# Altium schematic symbol library ST25RU3993_RF_MODULE.SCHLIB: 256 symbols (part 7 of 8)
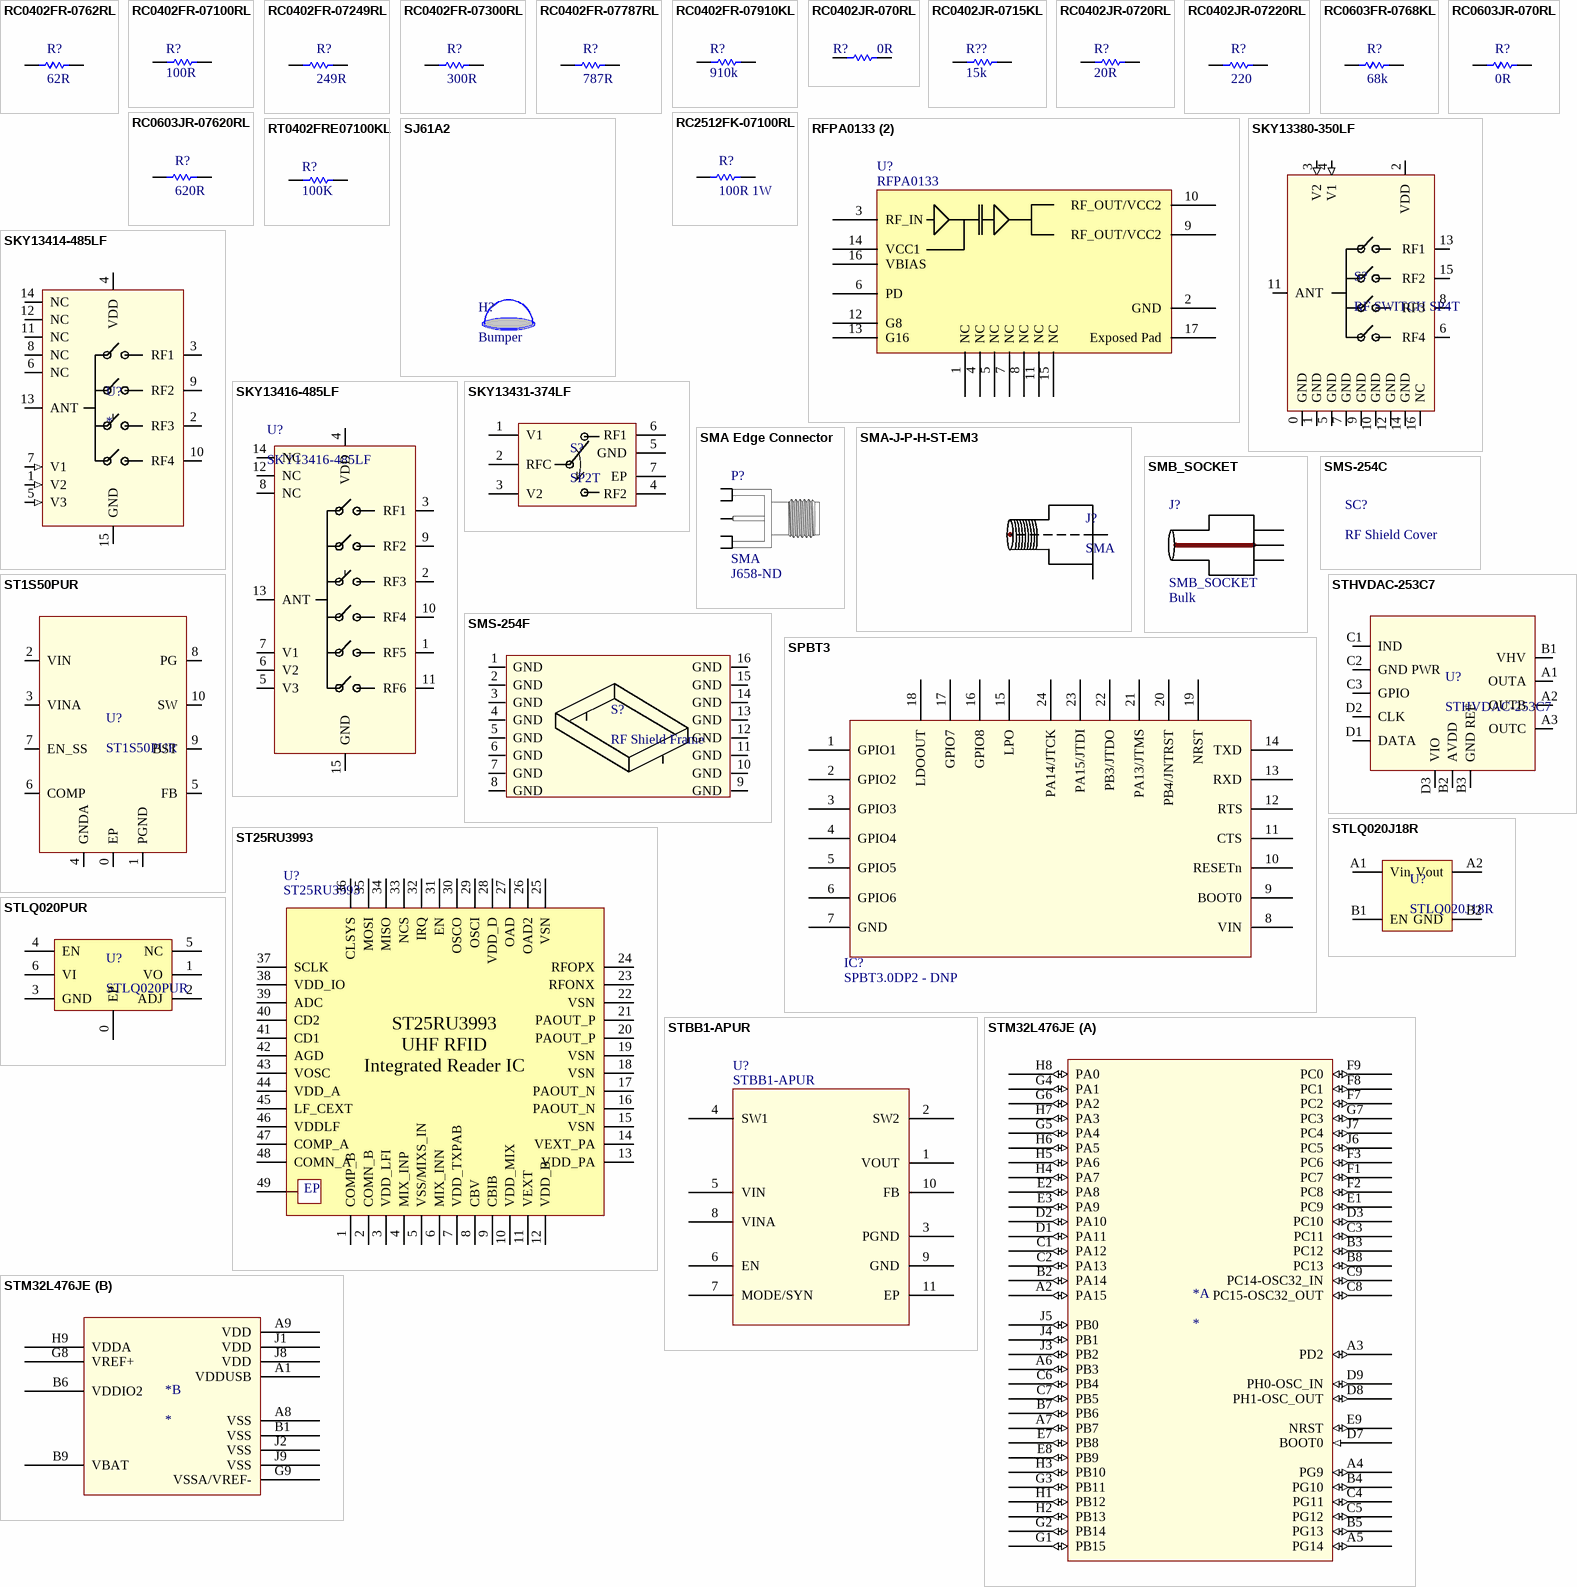
[diagram p12: symbols RC0402FR-0762RL to STM32L476JE]

## RC0402FR-07910KL
designator R?, comment 910k
RES SMD 910K OHM 1% 1/16W 0402; Manufacturer 1: Yageo; Manufacturer Part Number 1: RC0402FR-07910KL; Power (Watts): 0.063W, 1/16W; Temperature Coefficient: ±100ppm/°C; Exact Component Match: no; Driver Circuitry: Transducer, Externally Driven; Input Type: Zero-Peak Signal; Voltage - Rated: 1.5V; Voltage Range: 12.5V (Max); Frequency: 4kHz; Operating Mode: Single Tone; Sound Pressure Level (SPL): 65dB @ 1.5V, 10cm; Port Location: Side; Supplier 1: Digi-Key; Supplier Part Number 1: YAG3257DKR-ND; RoHS: RoHS Compliant; Category: Resistors; Stock 1: 154320; Pricing 1: 1=0.09, 10=0.011, 25=0.0076, 100=0.0043, 250=0.00332, 500=0.00264, 1000=0.00194, 2500=0.00168, 5000=0.00139 (EUR); Packaging: Digi-Reel®; Part Status: Active; Resistance (Ohms): 910k; Tolerance: ±1%; Composition: Thick Film; Features: Moisture Resistant; Operating Temperature: -55°C ~ 155°C; Package / Case: 0402 (1005 Metric); Supplier Device Package: 0402; Size / Dimension: 0.039" L x 0.020" W (1.00mm x 0.50mm); Height - Seated (Max): 0.016" (0.40mm); Number of Terminations: 2; Failure Rate: -; ComponentLink1URL: http://www.yageo.com/NewPortal/yageodocoutput?fileName=/pdf/R-Chip/PYu-RC_Group_51_RoHS_L_4.pdf; ComponentLink1Description: http://www.yageo.com/NewPortal/yageodocoutput?fileName=/pdf/R-Chip/PYu-RC_Group_51_RoHS_L_4.pdf; Manufacturer: Yageo; Manufacturer Part Number: RC0402FR-07910KL; Supplier 2: Digi-Key; Supplier Part Number 2: 490-9647-1-ND; Stock: 15302; Pricing: 1=1.66, 10=1.45, 25=1.1276, 50=1.02, 100=0.9127, 250=0.88584, 500=0.85898, 1000=0.77846 (EUR); Technology: Piezo; Duration: -; Current - Supply: -; Approvals: -; Ratings: -; Mounting Type: Surface Mount; Termination: Solder Pads; ComponentLink2URL: http://www.murata.com/~/media/webrenewal/products/sound/sounder/vppt-buzj083-d.ashx; ComponentLink2Description: http://www.murata.com/~/media/webrenewal/products/sound/sounder/vppt-buzj083-d.ashx
footprint R0402-ss
pins: 1, 2

## RC0402JR-070RL
designator R?, comment 0R
RES SMD 0.0OHM JUMPER 1/16W 0402; Manufacturer: Yageo; Manufacturer Part Number: RC0402JR-070RL; Resistance (Ohms): 0.0; Power (Watts): 0.063W, 1/16W; Exact Component Match: no; Supplier 1: Digi-Key; Supplier Part Number 1: 311-0.0JRDKR-ND; RoHS: RoHS Compliant; Category: Resistors; Stock 1: 13423202; Pricing 1: 1=0.09, 10=0.012, 25=0.0084, 100=0.0048, 250=0.0036, 500=0.00288, 1000=0.00212, 2500=0.00184, 5000=0.00152 (EUR); Packaging: Digi-Reel®; Part Status: Active; Tolerance: Jumper; Composition: Thick Film; Features: Moisture Resistant; Temperature Coefficient: -; Operating Temperature: -55°C ~ 155°C; Package / Case: 0402 (1005 Metric); Supplier Device Package: 0402; Size / Dimension: 0.039" L x 0.020" W (1.00mm x 0.50mm); Height - Seated (Max): 0.016" (0.40mm); Number of Terminations: 2; Failure Rate: -; ComponentLink1URL: http://www.yageo.com/NewPortal/yageodocoutput?fileName=/pdf/R-Chip/PYu-RC_Group_51_RoHS_L_4.pdf; ComponentLink1Description: http://www.yageo.com/NewPortal/yageodocoutput?fileName=/pdf/R-Chip/PYu-RC_Group_51_RoHS_L_4.pdf; Manufacturer 1: Yageo; Manufacturer Part Number 1: RC0402JR-070RL
footprint R0402-RF
pins: 1, 2

## RC0402JR-0715KL
designator R??, comment 15k
RES SMD 15K OHM 5% 1/16W 0402; Manufacturer: Yageo; Manufacturer Part Number: RC0402JR-0715KL; Power (Watts): 0.063W, 1/16W; Temperature Coefficient: ±100ppm/°C; Supplier 1: Digi-Key; Supplier Part Number 1: 311-15KJRCT-ND; RoHS: RoHS Compliant; Category: Resistors; Stock 1: 269346; Pricing 1: 1=0.1, 10=0.011, 25=0.0072, 50=0.0056, 100=0.0041, 250=0.00316, 500=0.00252, 1000=0.00185, 5000=0.00133 (EUR); Packaging: Cut Tape (CT); Part Status: Active; Resistance (Ohms): 15k; Tolerance: ±5%; Composition: Thick Film; Features: Moisture Resistant; Operating Temperature: -55°C ~ 155°C; Package / Case: 0402 (1005 Metric); Supplier Device Package: 0402; Size / Dimension: 0.039" L x 0.020" W (1.00mm x 0.50mm); Height - Seated (Max): 0.016" (0.40mm); Number of Terminations: 2; Failure Rate: -; ComponentLink1URL: http://www.yageo.com/NewPortal/yageodocoutput?fileName=/pdf/R-Chip/PYu-RC_Group_51_RoHS_L_4.pdf; ComponentLink1Description: http://www.yageo.com/NewPortal/yageodocoutput?fileName=/pdf/R-Chip/PYu-RC_Group_51_RoHS_L_4.pdf
footprint R0402-RF
pins: 1, 2

## RC0402JR-0720RL
designator R?, comment 20R
RES SMD 20 OHM 5% 1/16W 0402; Manufacturer 1: Yageo; Manufacturer Part Number 1: RC0402JR-0720RL; Resistance (Ohms): 20; Power (Watts): 0.063W, 1/16W; Temperature Coefficient: ±100ppm/°C; Frequency: 915MHz Center; Bandwidth: 26MHz; Filter Type: Low Pass; Insertion Loss: 0.5dB; Exact Component Match: no; Supplier 1: Digi-Key; Supplier Part Number 1: 311-20JRCT-ND; RoHS: RoHS Compliant; Category: Resistors; Stock 1: 271534; Pricing 1: 1=0.09, 10=0.011, 25=0.0076, 100=0.0042, 250=0.00324, 500=0.00262, 1000=0.00192, 2500=0.00166, 5000=0.00137 (EUR); Packaging: Cut Tape (CT); Part Status: Active; Tolerance: ±5%; Composition: Thick Film; Features: Moisture Resistant; Operating Temperature: -55°C ~ 155°C; Package / Case: 0402 (1005 Metric); Supplier Device Package: 0402; Size / Dimension: 0.039" L x 0.020" W (1.00mm x 0.50mm); Height - Seated (Max): 0.016" (0.40mm); Number of Terminations: 2; Failure Rate: -; ComponentLink1URL: http://www.yageo.com/NewPortal/yageodocoutput?fileName=/pdf/R-Chip/PYu-RC_Group_51_RoHS_L_4.pdf; ComponentLink1Description: http://www.yageo.com/NewPortal/yageodocoutput?fileName=/pdf/R-Chip/PYu-RC_Group_51_RoHS_L_4.pdf; Supplier 2: Digi-Key; Supplier Part Number 2: 712-1122-1-ND; Manufacturer 2: Johanson Technology Inc.; Manufacturer Part Number 2: 0915LP15B026E; Stock 2: 3000; Pricing 2: 1=0.42, 10=0.396, 25=0.3776, 50=0.3654, 100=0.3532, 250=0.33496, 500=0.28014, 1000=0.21741 (EUR); Ripple: -; Mounting Type: Surface Mount; Height (Max): 0.037" (0.95mm); ComponentLink2URL: http://www.johansontechnology.com/datasheets/low-pass-filters/0915LP15B026.pdf; ComponentLink2Description: http://www.johansontechnology.com/datasheets/low-pass-filters/0915LP15B026.pdf; Manufacturer: Yageo; Manufacturer Part Number: RC0402JR-0720RL
footprint R0402-RF
pins: 1, 2

## RC0402JR-07220RL
designator R?, comment 220
RES SMD 220 OHM 5% 1/16W 0402; Manufacturer: Yageo; Manufacturer Part Number: RC0402JR-07220RL; Power (Watts): 0.063W, 1/16W; Temperature Coefficient: ±100ppm/°C; Capacitance: 47pF; Voltage Rating: 25V; Dielectric: C0G; Supplier 1: Digi-Key; Supplier Part Number 1: 311-220JRCT-ND; RoHS: RoHS Compliant; Category: Resistors; Stock: 1308308; Pricing: 1=0.08, 10=0.01, 100=0.0042, 1000=0.00186, 2500=0.00162, 5000=0.00134 (EUR); Packaging: Cut Tape (CT); Part Status: Active; Tolerance: ±5%; Composition: Thick Film; Features: Moisture Resistant; Operating Temperature: -55°C ~ 155°C; Package / Case: 0402 (1005 Metric); Supplier Device Package: 0402; Size / Dimension: 0.039" L x 0.020" W (1.00mm x 0.50mm); Height - Seated (Max): 0.016" (0.40mm); Failure Rate: -; ComponentLink1URL: http://www.yageo.com/documents/recent/PYu-RC_Group_51_RoHS_L_8.pdf; ComponentLink1Description: http://www.yageo.com/documents/recent/PYu-RC_Group_51_RoHS_L_8.pdf; Supplier 2: Digi-Key; Supplier Part Number 2: 490-1256-6-ND; Mount: Surface Mount; Case/Package: 0201; Case Code (Metric): 0603; Case Code (Imperial): 0201; Min Operating Temperature: -55°C; Max Operating Temperature: 125°C; Package Quantity: 15000; Termination: SMD/SMT; Voltage Rating (DC): 25V; Length: 0.024inch; Width: 0.012inch; Thickness: 0.013inch; Depth: 0.3mm; REACH SVHC: No SVHC; Lead Free: Lead Free; ComponentLink2URL: https://datasheet.ciiva.com/5435/product-5435546.pdf; ComponentLink2Description: https://datasheet.ciiva.com/5435/product-5435546.pdf; ComponentLink3URL: https://datasheet.ciiva.com/18697/partnumbering-e-01-18697789.pdf; ComponentLink3Description: https://datasheet.ciiva.com/18697/partnumbering-e-01-18697789.pdf; ComponentLink4URL: https://datasheet.ciiva.com/18697/partnumbering-e-01-18697790.pdf; ComponentLink4Description: https://datasheet.ciiva.com/18697/partnumbering-e-01-18697790.pdf; ComponentLink5URL: https://datasheet.ciiva.com/18697/partnumbering-e-01-18697791.pdf; ComponentLink5Description: https://datasheet.ciiva.com/18697/partnumbering-e-01-18697791.pdf; Supplier 3: Digi-Key; Supplier Part Number 3: 311-20KNCT-ND; ComponentLink6URL: http://www.yageo.com/documents/recent/PYu-RC_Group_51_RoHS_L_10.pdf; ComponentLink6Description: http://www.yageo.com/documents/recent/PYu-RC_Group_51_RoHS_L_10.pdf
footprint R0402-RF
footprint R0402-RF
pins: 1, 2

## RC0603FR-0768KL
designator R?, comment 68k
RES SMD 68K OHM 1% 1/10W 0603; Manufacturer: Yageo; Manufacturer Part Number: RC0603FR-0768KL; Resistance: 68kR; Temperature Coefficient: 100ppm/°C; Power Rating: 100mW; Voltage Rating: 50V; Supplier 1: Arrow; Supplier Part Number 1: RC0603FR-0768KL; RoHS: Yes; Stock: 16855; Pricing: 1 = 0.00170, 250 = 0.00160, 3000 = 0.00150 (USD); Case/Package: 0603; Number of Pins: 2; Case Code (Metric): 1608; Case Code (Imperial): 0603; Min Operating Temperature: -55°C; Max Operating Temperature: 155°C; Tolerance: 1%; Packaging: Tape and Reel; Composition: Thick Film; Voltage Rating (DC): 50V; Termination: SMD/SMT; Package Quantity: 1; Number of Terminations: 2; Max Power Dissipation: 100mW; Features: Moisture Resistant; Length: 0.063inch; Height: 0.022inch; Width: 0.031inch; Depth: 0.8mm; Lead Free: Lead Free; REACH SVHC: Unknown; ComponentLink1URL: http://www.yageo.com/documents/recent/PYu-RC_Group_51_RoHS_L_9.pdf; ComponentLink1Description: http://www.yageo.com/documents/recent/PYu-RC_Group_51_RoHS_L_9.pdf; ComponentLink2URL: http://www.yageo.com/documents/recent/PYu-RC_Group_51_RoHS_L_10.pdf; ComponentLink2Description: http://www.yageo.com/documents/recent/PYu-RC_Group_51_RoHS_L_10.pdf; ComponentLink3URL: http://documents.rs-components.com/techlib://itc_doclist_GB.htm?stockno=5048243; ComponentLink3Description: http://documents.rs-components.com/techlib://itc_doclist_GB.htm?stockno=5048243; ComponentLink4URL: http://www.farnell.com/datasheets/1868787.pdf; ComponentLink4Description: http://www.farnell.com/datasheets/1868787.pdf; ComponentLink5URL: http://www.farnell.com/datasheets/443971.pdf; ComponentLink5Description: http://www.farnell.com/datasheets/443971.pdf; ComponentLink6URL: http://www.farnell.com/datasheets/2167052.pdf; ComponentLink6Description: http://www.farnell.com/datasheets/2167052.pdf
footprint R0603-ss
pins: 1, 2

## RC0603JR-070RL
designator R?, comment 0R
RES SMD 0.0OHM JUMPER 1/10W 0603; Manufacturer: Yageo; Manufacturer Part Number: RC0603JR-070RL; Supplier 1: Digi-Key; Supplier Part Number 1: 311-0.0GRCT-ND; Category: Resistors; Stock: 14499987
footprint R0603-ss
pins: 1, 2

## RC0603JR-07620RL
designator R?, comment 620R
Res Thick Film 0603 620 Ohm 5% 1/10W ±100ppm/°C Molded SMD SMD Paper T/R; Manufacturer: Yageo; Manufacturer Part Number: RC0603JR-07620RL; Power Rating: 100mW; Voltage Rating: 50V; Working Voltage: 75V; Supplier 1: Digi-Key; Supplier Part Number 1: 311-620GRCT-ND; Stock: 349611; Pricing: 1 = 0.10000, 10 = 0.02000, 100 = 0.00810, 1000 = 0.00362, 2500 = 0.00314 (USD); Case/Package: 0603; Case Code (Metric): 1608; Case Code (Imperial): 0603; Contact Plating: Matte,Tin; Min Operating Temperature: -55°C; Max Operating Temperature: 155°C; Resistance: 620R; Tolerance: 5%; Packaging: Tape and Reel; Composition: Thick Film; Temperature Coefficient: 100ppm/°C; Termination: SMD/SMT; Package Quantity: 1; Voltage Rating (DC): 50V; Number of Terminations: 2; Max Power Dissipation: 100mW; Military Standard: Not; Features: Moisture Resistant; Length: 1.6mm; Height: 0.022inch; Width: 0.031inch; Depth: 0.8mm; Radiation Hardening: No; Lead Free: Lead Free; ComponentLink1URL: http://www.yageo.com.tw/exep/pages/download/literatures/PYu-R_INT-thick_7.pdf; ComponentLink1Description: http://www.yageo.com.tw/exep/pages/download/literatures/PYu-R_INT-thick_7.pdf; ComponentLink2URL: http://www.yageo.com/documents/recent/PYu-RC_Group_51_RoHS_L_9.pdf; ComponentLink2Description: http://www.yageo.com/documents/recent/PYu-RC_Group_51_RoHS_L_9.pdf; ComponentLink3URL: http://www.mouser.com/ds/2/447/RC0603-272842.pdf; ComponentLink3Description: http://www.mouser.com/ds/2/447/RC0603-272842.pdf; ComponentLink4URL: http://datasheet.octopart.com/RC0603JR-07620RL-Yageo-datasheet-8328172.pdf; ComponentLink4Description: http://datasheet.octopart.com/RC0603JR-07620RL-Yageo-datasheet-8328172.pdf; ComponentLink5URL: http://datasheet.octopart.com/RC0603JR-07620RL-Yageo-datasheet-62067350.pdf; ComponentLink5Description: http://datasheet.octopart.com/RC0603JR-07620RL-Yageo-datasheet-62067350.pdf; ComponentLink6URL: http://datasheet.octopart.com/RC0603JR-07620RL-Yageo-datasheet-118562.pdf; ComponentLink6Description: http://datasheet.octopart.com/RC0603JR-07620RL-Yageo-datasheet-118562.pdf; ComponentLink7URL: http://datasheet.octopart.com/RC0603JR-07620RL-Yageo-datasheet-8324193.pdf; ComponentLink7Description: http://datasheet.octopart.com/RC0603JR-07620RL-Yageo-datasheet-8324193.pdf; ComponentLink8URL: http://datasheet.octopart.com/RC0603JR-07620RL-Yageo-datasheet-12596169.pdf; ComponentLink8Description: http://datasheet.octopart.com/RC0603JR-07620RL-Yageo-datasheet-12596169.pdf; ComponentLink9URL: http://datasheet.octopart.com/RC0603JR-07620RL-Yageo-datasheet-15599030.pdf; ComponentLink9Description: http://datasheet.octopart.com/RC0603JR-07620RL-Yageo-datasheet-15599030.pdf; ComponentLink10URL: http://datasheet.octopart.com/RC0603JR-07620RL-Yageo-datasheet-30459151.pdf; ComponentLink10Description: http://datasheet.octopart.com/RC0603JR-07620RL-Yageo-datasheet-30459151.pdf; ComponentLink11URL: http://datasheet.octopart.com/RC0603JR-07620RL-Yageo-datasheet-73766026.pdf; ComponentLink11Description: http://datasheet.octopart.com/RC0603JR-07620RL-Yageo-datasheet-73766026.pdf
footprint R0603-ss
pins: 1, 2

## RC2512FK-07100RL
designator R?, comment 100R 1W
RC2512FK-07100RL             SMD Chip Resistor, Thick Film, 100 ohm, 200 V, 2512 [6432 Metric], 2 W,  1%, RC Series; Manufacturer: Yageo; Temperature Coefficient: 100ppm/°C; Voltage Rating: 200V; Supplier 1: Digi-Key; Supplier Part Number 1: YAG3387CT-ND; Manufacturer Part Number: RC2512FK-07100RL; RoHS: Yes; Stock: 173103; Pricing: 1 = 0.47000, 10 = 0.33600, 100 = 0.13430, 1000 = 0.06617 (USD); Case/Package: 2512; Weight: 0.001429oz; Case Code (Imperial): 2512; Case Code (Metric): 6432; Min Operating Temperature: -55°C; Max Operating Temperature: 155°C; Resistance: 100R; Tolerance: 1%; Power Rating: 1W; Composition: Thick Film; Packaging: Tape and Reel; Termination: SMD/SMT; Number of Terminations: 2; Military Standard: Not; Max Power Dissipation: 1W; Features: Moisture Resistant; Length: 6.35mm; Height: 0.026inch; Width: 3.1mm; Depth: 3.1mm; REACH SVHC: Unknown; Lead Free: Lead Free; ComponentLink1URL: http://www.mouser.com/ds/2/447/PYu-RC2512_51_RoHS_L_(4)-7620.pdf; ComponentLink1Description: http://www.mouser.com/ds/2/447/PYu-RC2512_51_RoHS_L_(4)-7620.pdf; ComponentLink2URL: http://www.yageo.com/documents/recent/PYu-RC2512_51_RoHS_L_(4).pdf; ComponentLink2Description: http://www.yageo.com/documents/recent/PYu-RC2512_51_RoHS_L_(4).pdf; ComponentLink3URL: http://www.farnell.com/datasheets/638316.pdf; ComponentLink3Description: http://www.farnell.com/datasheets/638316.pdf
footprint RC2512 (Chip Resistor, 2-Leads, Body 6.35x3.20mm, IPC Medium Density)
pins: 1, 2

## RFPA0133 (2)
designator U?, comment RFPA0133
AMP, RF, 380-960MHZ, 3-5V, 16QFN; Manufacturer 1: RFMD; Frequency Min: 380; Frequency Max: 960; Gain: 32; RF IC Case Style: QFN; No. of Pins: 16; Supply Voltage Min: 3; Supply Voltage Max: 5; Frequency Range: 380MHz to 960; RF Type: General Purpose; Supply Current: 320; Supply Voltage Range: 3V to 5V<!--FANDB--><div class="features-and-benefits-container"><div class="features-and-benefits-description"><span class="features-benefits-value">The RFPA0133 is a 3 to 5V high efficiency programmable gain Power Amplifier designed to offer saturated efficiency greater than 60% over a range of frequencies from 380 to 960MHz. The device is manufactured on an advanced Gallium Arsenide Heterojunction Bipolar Transistor (HBT) process.</span></div><div class="features-and-benefits-list"><ul class="features-and-benefits-list-list"><li class="features-and-benefits-list-item">0.5W CW Output power at 3.6V</li><li class="features-and-benefits-list-item">1W CW Output power at 5V</li><li class="features-and-benefits-list-item">32dB Small signal gain at 900; Exact Component Match: yes; Supplier 1: Farnell; Supplier Part Number 1: 2066376; Manufacturer Part Number 1: RFPA0133; RoHS: YES; Stock 1: 0; Pricing 1: 1=26.04, 10=22.77, 100=18.87, 200=16.98, 500=15.29, 1000=12.85, 2000=11.58 (GBP); Noise Figure Typ: -; Operating Temperature Min: -40; Operating Temperature Max: 85; Packaging: Each; Product Range: -; Automotive Qualification Standard: -; MSL: MSL 3 - 168 hours; Operating Temperature Range: -40°C to +85; ComponentLink1URL: http://www.farnell.com/datasheets/1848789.pdf; ComponentLink1Description: http://www.farnell.com/datasheets/1848789.pdf; ComponentLink2URL: http://www.farnell.com/datasheets/2042598.pdf; ComponentLink2Description: http://www.farnell.com/datasheets/2042598.pdf; Manufacturer: RFMD; Manufacturer Part Number: RFPA0133
footprint RFPA0133 (QFN, 16-Leads, Body 3x3mm)
pins: 1 NC, 2 GND, 3 RF_IN, 4 NC, 5 NC, 6 PD, 7 NC, 8 NC, 9 RF_OUT/VCC2, 10 RF_OUT/VCC2, 11 NC, 12 G8, 13 G16, 14 VCC1, 15 NC, 16 VBIAS, 17 Exposed Pad

## RT0402FRE07100KL
designator R?, comment 100K
RES SMD 100K OHM 1% 1/16W 0402; Manufacturer 1: Yageo; Manufacturer Part Number 1: RT0402FRE07100KL; Power (Watts): 0.063W, 1/16W; Temperature Coefficient: ±50ppm/°C; Exact Component Match: no; Supplier 1: Digi-Key; Supplier Part Number 1: YAG2307TR-ND; RoHS: RoHS Compliant; Category: Resistors; Stock 1: 30000; Pricing 1: 10000=0.00727, 30000=0.00639, 50000=0.00586, 100000=0.00574 (EUR); Packaging: Tape & Reel (TR); Part Status: Active; Resistance (Ohms): 100k; Tolerance: ±1%; Composition: Thin Film; Features: Moisture Resistant; Operating Temperature: -55°C ~ 155°C; Package / Case: 0402 (1005 Metric); Supplier Device Package: 0402; Size / Dimension: 0.039" L x 0.020" W (1.00mm x 0.50mm); Height - Seated (Max): 0.014" (0.35mm); Number of Terminations: 2; Failure Rate: -; ComponentLink1URL: http://www.yageo.com/documents/recent/PYu-RT_1-to-0.05_RoHS_L_6.pdf; ComponentLink1Description: http://www.yageo.com/documents/recent/PYu-RT_1-to-0.05_RoHS_L_6.pdf; Manufacturer: Yageo; Manufacturer Part Number: RT0402FRE07100KL
footprint R0402-ss
pins: 1, 2

## SJ61A2
designator H?, comment Bumper
BUMPER CYLIN 0.375" DIA BLK; Manufacturer: 3M; Manufacturer Part Number: SJ61A2; Shape: Dome; Outside Diameter: 0.375inch; Supplier 1: Digi-Key; Supplier Part Number 1: SJ5748-0-ND; RoHS: Yes; Stock: 21792; Pricing: 96 = 0.19396, 192 = 0.17240, 288 = 0.16378, 576 = 0.15516, 1056 = 0.14654, 2592 = 0.14223, 5088 = 0.11637 (USD); Mount: Adhesive; Color: Black; Material: Polyurethane; Package Quantity: 10080; Width: 0.375inch; Thickness: 0.235inch; ComponentLink1URL: https://multimedia.3m.com/mws/media/117314O/3m-bumpon-protective-products-molded-shapes-colored-and-clear.pdf; ComponentLink1Description: https://multimedia.3m.com/mws/media/117314O/3m-bumpon-protective-products-molded-shapes-colored-and-clear.pdf
footprint bumpon (BUMPER CYLIN 0.375")

## SKY13380-350LF
designator S?, comment RF SWITCH SP4T
RF Switch ICs 20MHz-3.0GHz SP4T IL .45dB @ 2.0GHz; Manufacturer: Skyworks Solutions; Manufacturer Part Number: SKY13380-350LF; Frequency: 20MHz; P1dB: 39dBm; Impedance: 50R; Insertion Loss: 0.6dB; Supplier 1: Digi-Key; Supplier Part Number 1: 863-1646-1-ND; RoHS: Yes; Stock: 6581; Pricing: 1 = 1.50000, 10 = 1.35100, 100 = 1.08600, 500 = 0.89224, 1000 = 0.73928 (USD); Case/Package: QFN; Min Operating Temperature: -40°C; Max Operating Temperature: 85°C; Packaging: Tape and Reel; Package Quantity: 3000; Throw Configuration: SP4T; ComponentLink1URL: http://www.mouser.com/ds/2/472/201486C-41010.pdf; ComponentLink1Description: http://www.mouser.com/ds/2/472/201486C-41010.pdf
footprint QFN50P300X300X77_HS-17N (QFN, 16-Leads, Body 3.00x3.00mm, Pitch 0.50mm, Thermal Pad 1.68x1.68mm, IPC Medium Density)
pins: 0 GND, 1 GND, 2 VDD (power), 3 V2 (in), 4 V1 (in), 5 GND, 6 RF4, 7 GND, 8 RF3, 9 GND, 10 GND, 11 ANT, 12 GND, 13 RF1, 14 GND, 15 RF2, 16 NC

## SKY13414-485LF
designator U?
RF Switch ICs 100-3000MHz SP4T IL .45dB Iso >31dB; Manufacturer: Skyworks Solutions; Manufacturer Part Number: SKY13414-485LF; P1dB: 37dBm; Impedance: 50R; IIP3: 70dBm; Supplier 1: Digi-Key; Supplier Part Number 1: 863-1582-6-ND; Stock: 16962; Pricing: 1=1.26, 10=1.126, 100=0.8777, 500=0.72506, 1000=0.57242 (USD); Case/Package: QFN; Min Operating Temperature: -40°C; Max Operating Temperature: 85°C; Packaging: Tape and Reel; Package Quantity: 3000; Throw Configuration: SP4T; ComponentLink1URL: https://datasheet.ciiva.com/15309/sky13414-485lf-201689g-231640-15309794.pdf; ComponentLink1Description: https://datasheet.ciiva.com/15309/sky13414-485lf-201689g-231640-15309794.pdf
footprint SKY13414-485LF (0.1 to 3.8 GHz SP4T Antenna Switch)
pins: 1 V2 (in), 2 RF3, 3 RF1, 4 VDD (power), 5 V3 (in), 6 NC, 7 V1 (in), 8 NC, 9 RF2, 10 RF4, 11 NC, 12 NC, 13 ANT, 14 NC, 15 GND (power)

## SKY13416-485LF
designator U?
RF Switch IC SP6T 3GHz 50Ohm 14-QFN (2x2); Manufacturer: Skyworks Solutions; Manufacturer Part Number: SKY13416-485LF; ComponentLink1Description: Datasheet; ComponentLink1URL: https://www.skyworksinc.com/-/media/SkyWorks/Documents/Products/701-800/SKY13416_485LF_201679I.pdf
footprint SKY13416485LF
pins: 1 RF5, 2 RF3, 3 RF1, 4 VDD (power), 5 V3, 6 V2, 7 V1, 8 NC, 9 RF2, 10 RF4, 11 RF6, 12 NC, 13 ANT, 14 NC, 15 GND (power)

## SKY13431-374LF
designator S?, comment SP2T
IC SWITCH SP2T; Manufacturer: Skyworks Solutions Inc.; Manufacturer Part Number: SKY13431-374LF; Frequency - Lower: 500MHz; Isolation @ Frequency: 20dB @ 5.8GHz (typ); Insertion Loss @ Frequency: 0.8dB @ 5.8GHz; IIP3: 57dBm (typ); Circuit: SPDT; P1dB: 36dBm; Impedance: 50 Ohm; Voltage - Supply: 2.5 V ~ 5 V; RF Type: WiMax, WLAN; Supplier 1: Digi-Key; Supplier Part Number 1: 863-1651-1-ND; RoHS: RoHS Compliant; Category: RF/IF and RFID; Stock: 3887; Pricing: 1=1.28, 10=1.144, 100=0.8921, 500=0.73694, 1000=0.5818 (EUR); Packaging: Cut Tape (CT); Part Status: Active; Topology: -; Features: -; Operating Temperature: -40°C ~ 85°C; Package / Case: 6-XFDFN Exposed Pad; Supplier Device Package: 6-DFN (1.5x1.5); ComponentLink1URL: http://www.skyworksinc.com/uploads/documents/SKY13431_374LF_201649C.pdf; ComponentLink1Description: http://www.skyworksinc.com/uploads/documents/SKY13431_374LF_201649C.pdf
footprint SKY13431-374LF (6 Pin DFN)
pins: 1 V1, 2 RFC, 3 V2, 4 RF2, 5 GND, 6 RF1, 7 EP

## SMA Edge Connector
designator P?, comment SMA  Supplier Part Number 1: J658-ND
CONN SMA JACK 50 OHM EDGE MNT; Manufacturer: Cinch Connectivity Solutions Johnson; Manufacturer Part Number: 142-0701-851; Connector Type: Jack, Female Socket; Contact Termination: Solder Tab; Shield Termination: Solder; Impedance: 50 Ohm; Frequency - Max: 18GHz; Includes: 1 pc - 1 Connector; Body Material: Brass; Body Finish: Gold; Dielectric Material: Polytetrafluoroethylene (PTFE); Center Contact Material: Beryllium Copper; Voltage Rating: 335V; Mating Cycles: 500; Supplier 1: Digi-Key; RoHS: RoHS Compliant; Category: Connectors, Interconnects; Stock: 75039; Pricing 1: 1=4.93, 10=4.73, 25=4.3364, 50=4.1392, 100=3.9421, 250=3.44936, 500=3.35082, 1000=2.85805, 2500=2.66095 (EUR); Packaging: Bulk; Part Status: Active; Connector Style: SMA; Mounting Type: Board Edge, End Launch; Mounting Feature: -; Cable Group: -; Fastening Type: Threaded; Features: -; Housing Color: Gold; Ingress Protection: -; Center Contact Plating: Gold; Operating Temperature: -65°C ~ 165°C; Insertion Loss: -; ComponentLink1URL: https://cinchconnectivity.com/OA_MEDIA/drawings/dr-1420701851.pdf; ComponentLink1Description: https://cinchconnectivity.com/OA_MEDIA/drawings/dr-1420701851.pdf; Supplier 2: Digi-Key; Supplier Part Number 2: J797-ND; Pricing: 1=6.84, 10=6.56, 25=5.9892, 50=5.704, 100=5.4187, 250=4.84836, 500=4.56314, 1000=3.99276 (EUR); ComponentLink2URL: http://www.belfuse.com/resources/Johnson/drawings/dr-142-0761-801.pdf; ComponentLink2Description: http://www.belfuse.com/resources/Johnson/drawings/dr-142-0761-801.pdf; Supplier 3: Avnet; Supplier Part Number 3: 0732511150; Mount: Edge; Case/Package: SMA; Contact Plating: Gold; Contact Material: Copper; Body Plating: Gold; Insulation Material: Polytetrafluoroethylene; Min Operating Temperature: -65°C; Max Operating Temperature: 165°C; Termination: Solder; Package Quantity: 1600; Max Frequency: 18GHz; Length: 9.53mm; Depth: 9.53mm; Radiation Hardening: No; Lead Free: Lead Free; ComponentLink3URL: https://www.molex.com/pdm_docs/ps/PS-89675-346.pdf; ComponentLink3Description: https://www.molex.com/pdm_docs/ps/PS-89675-346.pdf
footprint SOCKET_SMD_SMA_EDGE (Johnson Component 142-0707-801)
pins: 1 Signal, 2 GND, 3 GND, 4 GND, 5 GND

## SMA-J-P-H-ST-EM3
designator J?, comment SMA
Rf / Coaxial Connector Sma Coaxial Str; Manufacturer: Samtec; Manufacturer Part Number: SMA-J-P-H-ST-EM3; Supplier 1: Farnell; Supplier Part Number 1: 2856819; Stock: 19; Pricing: 1 = 4.91000, 10 = 4.32000, 50 = 4.12000, 100 = 3.92000, 150 = 3.38000, 250 = 2.84000 (CHF); ComponentLink1URL: http://datasheet.octopart.com/SMA-J-P-H-ST-EM3-Samtec-datasheet-104427088.pdf; ComponentLink1Description: http://datasheet.octopart.com/SMA-J-P-H-ST-EM3-Samtec-datasheet-104427088.pdf; ComponentLink2URL: http://datasheet.octopart.com/SMA-J-P-H-ST-EM3-Samtec-datasheet-97281556.pdf; ComponentLink2Description: http://datasheet.octopart.com/SMA-J-P-H-ST-EM3-Samtec-datasheet-97281556.pdf; ComponentLink3URL: http://sigma.octopart.com/97281561/technical_drawing/Samtec-SMA-J-P-H-ST-EM3.pdf; ComponentLink3Description: http://sigma.octopart.com/97281561/technical_drawing/Samtec-SMA-J-P-H-ST-EM3.pdf; ComponentLink4URL: http://datasheet.octopart.com/SMA-J-P-H-ST-EM3-Samtec-datasheet-116536237.pdf; ComponentLink4Description: http://datasheet.octopart.com/SMA-J-P-H-ST-EM3-Samtec-datasheet-116536237.pdf
footprint SMA-J-P-X-ST-EM3 (CONN SMA JACK STR 50 OHM EDGEMNT)
pins: 1, 2

## SMB_SOCKET
designator J?  Packaging: Bulk
Manufacturer: Emerson Network Power Connectivity Johnson; Manufacturer Part Number: 131-3711-201; Component_Description: CONN SMB JACK VERT SMD GOLD; Connector Style: SMB; Connector Type: Jack, Male Pins; Contact Termination: Solder; Impedance: 50 Ohm; Frequency - Max: 4GHz; Supplier 1: Digi-Key; RoHS: RoHS Compliant; Category: Connectors, Interconnects; Stock 1: 2033; Pricing 1: 1=3.53, 10=3.145, 50=2.5674, 100=2.3106, 250=2.11808, 500=1.79716, 750=1.70731, 1000=1.60461, 2500=1.54042 (EUR); Mounting Type: Surface Mount; Fastening Type: Snap-On; Cable Group: -; Features: -; Color: -; ComponentLink1URL: http://emersonconnectivity.com/OA_MEDIA/drawings/dr-1313711201.pdf; ComponentLink1Description: http://emersonconnectivity.com/OA_MEDIA/drawings/dr-1313711201.pdf; Supplier Part Number 1: J816-ND
footprint SMB Jack Surface Mount (U FL Socket - HRS - Surface Mount)
pins: 1, 2, 3

## SMS-254C
designator SC?, comment RF Shield Cover
EMI Gaskets, Sheets & Absorbers This is Cover. Frame is 861-SMS254F; Manufacturer: Leader Tech FerriShield; Manufacturer Part Number: SMS-254C; Supplier 1: Digi-Key; Supplier Part Number 1: 1798-1196-ND; Stock: 0; Mount: Surface Mount; Packaging: Bulk; Package Quantity: 20; ComponentLink1URL: https://datasheet.ciiva.com/46646/70323274-46646159.pdf; ComponentLink1Description: https://datasheet.ciiva.com/46646/70323274-46646159.pdf

## SMS-254F
designator S?, comment RF Shield Frame
EMI Gaskets, Sheets & Absorbers This is Frame. Cover is 861-SMS254C; Manufacturer: Leader Tech FerriShield; Manufacturer Part Number: SMS-254F; Supplier 1: Digi-Key; Supplier Part Number 1: 1798-1197-1-ND; Stock: 0; Mount: Surface Mount; Packaging: Tape and Reel; Package Quantity: 300; ComponentLink1URL: https://datasheet.ciiva.com/26992/lt-sms-product-profile-469544-26992425.pdf; ComponentLink1Description: https://datasheet.ciiva.com/26992/lt-sms-product-profile-469544-26992425.pdf
footprint SMS-254F (RF Shield Frame 1.034" (26.26mm) X 1.034" (26.26mm) Surface Mount)
pins: 1 GND, 2 GND, 3 GND, 4 GND, 5 GND, 6 GND, 7 GND, 8 GND, 9 GND, 10 GND, 11 GND, 12 GND, 13 GND, 14 GND, 15 GND, 16 GND

## SPBT3
designator IC?, comment SPBT3.0DP2 - DNP
SPBT3.0DP2 BLUETOOTH 3.0; Manufacturer: STMICROELECTRONICS; Kit Application Type: Wireless Connectivity; Manufacturer Part Number: SPBT3.0DP2; Silicon Manufacturer: STMicroelectronics; Application Sub Type: Bluetooth; Supplier 1: Digikey; Supplier Part Number 1: 497-17120-ND
footprint SPBT3.0DP2 (Bluetooth v3.0, SPP and HID profiles, Class 2 module, 128-bit encryption security, ? ST Cortex-M4 microprocessor, 512 KB Flash, 128 KB RAM)
pins: 1 GPIO1, 2 GPIO2, 3 GPIO3, 4 GPIO4, 5 GPIO5, 6 GPIO6, 7 GND, 8 VIN, 9 BOOT0, 10 RESETn, 11 CTS, 12 RTS, 13 RXD, 14 TXD, 15 LPO, 16 GPIO8, 17 GPIO7, 18 LDOOUT, 19 NRST, 20 PB4/JNTRST, 21 PA13/JTMS, 22 PB3/JTDO, 23 PA15/JTDI, 24 PA14/JTCK

## ST1S50PUR
designator U?
4A Monolithic synchronous step-down converter with high efficiency at light load; Manufacturer: STMicroelectronics; Number of Outputs: 1; Output Voltage: 15.84V; Min Input Voltage: 4V; Max Input Voltage: 18V; Min Output Voltage: 800mV; Switching Frequency: 500kHz; Synchronous Rectifier: Yes; Output Type: Adjustable; Output Configuration: Positive; Voltage Rating: 25V; Capacitance: 10uF; Tolerance: 10%; Dielectric: X7R; Core Material: Ferrite; Inductance: 22uh; DC Resistance (DCR): 85mR; Shielding: Unshielded; Test Frequency: 100kHz; Saturation Current: 2.6A; Current Rating: 2.7A; Supplier 1: Digi-Key; Supplier Part Number 1: 497-14667-1-ND; Manufacturer Part Number: ST1S50PUR; RoHS: Yes; Stock: 3662; Pricing: 1 = 1.53000, 10 = 1.37000, 100 = 1.10130, 500 = 0.90486, 1000 = 0.74974 (USD); Mount: Surface Mount; Number of Pins: 10; Min Operating Temperature: -40°C; Max Operating Temperature: 150°C; Max Output Current: 4A; Packaging: Cut Tape; Max Output Voltage: 15.84V; Output Current: 4A; REACH SVHC: No SVHC; Lead Free: Lead Free; Supplier 2: Digi-Key; Supplier Part Number 2: 490-6532-1-ND; Case/Package: 1210; Case Code (Metric): 3225; Case Code (Imperial): 1210; Voltage Rating (DC): 25V; Package Quantity: 4000; Termination: SMD/SMT; Length: 3.2mm; Height: 2mm; Width: 0.098inch; Thickness: 0.087inch; Depth: 2.5mm; Radiation Hardening: No; ComponentLink1URL: https://www.murata.com/~/media/webrenewal/support/library/catalog/products/capacitor/mlcc/c02e.ashx?la=en-us; ComponentLink1Description: https://www.murata.com/~/media/webrenewal/support/library/catalog/products/capacitor/mlcc/c02e.ashx?la=en-us; Supplier 3: Mouser; Supplier Part Number 3: 70-IDC5020ER220M; Contact Plating: Tin; Composition: Wirewound; Military Standard: Not; Max DC Current: 2.7A; Height - Seated (Max): 0.205inch; ComponentLink2URL: http://www.vishay.com/docs/34007/idc5020.pdf; ComponentLink2Description: http://www.vishay.com/docs/34007/idc5020.pdf
footprint ST1S50 (4 A monolithic synchronous step-down switching converter with  high efficiency at light load)
pins: 0 EP, 1 PGND, 2 VIN, 3 VINA, 4 GNDA, 5 FB, 6 COMP, 7 EN_SS, 8 PG, 9 BST, 10 SW

## ST25RU3993
designator U?
UHF EPC CLASS1 GEN2 READER; Manufacturer: ST Microelectronics; Manufacturer Part Number: AS3993-BQFT; Frequency: 860MHz ~ 960MHz; Standards: EPC, ISO 18000-6; Voltage - Supply: 2.7 V ~ 3.6 V; Exact Component Match: yes; Supplier 1: Digi-Key; Supplier Part Number 1: AS3993-BQFTTR-ND; RoHS: RoHS Compliant; Category: RF/IF and RFID; Stock 1: 0; Pricing 1: 500=40.10842 (EUR); Packaging: Tape & Reel (TR); Part Status: Active; Type: RFID Reader; Interface: -; Operating Temperature: -; Package / Case: 48-VFQFN Exposed Pad; Supplier Device Package: 48-QFN (7x7); ComponentLink1URL: http://www.ams.com/eng/content/view/download/78518; ComponentLink1Description: http://www.ams.com/eng/content/view/download/78518
footprint ST25RU3993_QFN48_0.5mm_pitch (QFN, 48-Leads, Body 7,0x7,0mm (max), Pitch 0,50mm, IPC Medium Density)
pins: 1 COMP_B, 2 COMN_B, 3 VDD_LFI, 4 MIX_INP, 5 VSS/MIXS_IN, 6 MIX_INN, 7 VDD_TXPAB, 8 CBV, 9 CBIB, 10 VDD_MIX, 11 VEXT, 12 VDD_B, 13 VDD_PA, 14 VEXT_PA, 15 VSN, 16 PAOUT_N, 17 PAOUT_N, 18 VSN, 19 VSN, 20 PAOUT_P, 21 PAOUT_P, 22 VSN, 23 RFONX, 24 RFOPX, 25 VSN, 26 OAD2, 27 OAD, 28 VDD_D, 29 OSCI, 30 OSCO, 31 EN, 32 IRQ, 33 NCS, 34 MISO, 35 MOSI, 36 CLSYS, 37 SCLK, 38 VDD_IO, 39 ADC, 40 CD2, 41 CD1, 42 AGD, 43 VOSC, 44 VDD_A, 45 LF_CEXT, 46 VDDLF, 47 COMP_A, 48 COMN_A, 49 EP
text: ST25RU3993 / UHF RFID / Integrated Reader IC

## STBB1-APUR
designator U?
IC REG BUCK BST ADJ 1.6A 10VDFPN; Manufacturer 1: STMicroelectronics; Function: Step-Up/Step-Down; Output Configuration: Positive; Topology: Buck-Boost; Output Type: Adjustable; Number of Outputs: 1; Voltage - Input (Min): 2V; Voltage - Input (Max): 5.5V; Voltage - Output (Min/Fixed): 1.2V; Current - Output: 1.6A (Switch); Frequency - Switching: 1.5MHz; Synchronous Rectifier: Yes; Supplier 1: Digi-Key; Supplier Part Number 1: 497-11971-2-ND; Manufacturer Part Number 1: STBB1-APUR; RoHS: RoHS Compliant; Category: Integrated Circuits (ICs); Stock 1: 3000; Pricing 1: 3000=1.0412, 6000=1.00263, 15000=0.96407, 30000=0.94865, 75000=0.92551 (EUR); Packaging: Tape & Reel (TR); Part Status: Active; Voltage - Output (Max): 5.5V; Operating Temperature: -40°C ~ 85°C (TJ); Mounting Type: Surface Mount; Package / Case: 10-VFDFN Exposed Pad; Supplier Device Package: 10-DFN (3x3); ComponentLink1URL: http://www.st.com/content/ccc/resource/technical/document/datasheet/20/a6/10/e0/63/85/43/c1/DM00037824.pdf/files/DM00037824.pdf/jcr:content/translations/en.DM00037824.pdf; ComponentLink1Description: http://www.st.com/content/ccc/resource/technical/document/datasheet/20/a6/10/e0/63/85/43/c1/DM00037824.pdf/files/DM00037824.pdf/jcr:content/translations/en.DM00037824.pdf; Manufacturer: STMicroelectronics; Manufacturer Part Number: STBB1-APUR; Exact Component Match: yes
footprint STBB1 (1 A, high efficiency single inductor dual mode buck-boost DC-DC converter)
pins: 1 VOUT, 2 SW2, 3 PGND, 4 SW1, 5 VIN, 6 EN, 7 MODE/SYN, 8 VINA, 9 GND, 10 FB, 11 EP

## STHVDAC-253C7
designator U?
BST capacitance controller; Manufacturer: STMicroelectronics; Resolution (Bits): 7 b; Data Interface: RFFE; Voltage Supply Source: Analog and Digital; Voltage - Supply: 2.3 V ~ 5 V; Tolerance: ±10%; Voltage - Rated: 16V; Notification: Current market demand for these product types have resulted in fluctuating and extending lead times. Lead times may differ.; Supplier 1: STMicroelectronics; Supplier Part Number 1: STHVDAC-253C7; Manufacturer Part Number: STHVDAC-253C7; RoHS: RoHS Compliant; Category: Integrated Circuits (ICs); Type: DAC; Operating Temperature: -30°C ~ 85°C; Mounting Type: Surface Mount; Package / Case: 16-UFBGA, FCBGA; Supplier Device Package: 16-FlipChip (1.1x1.45); Applications: General Purpose; Size / Dimension: 0.024" L x 0.012" W (0.60mm x 0.30mm); Thickness (Max): 0.013" (0.33mm); ComponentLink2URL: http://search.murata.co.jp/Ceramy/image/img/A01X/G101/ENG/GRM033R61C333KE84-01.pdf; ComponentLink2Description: http://search.murata.co.jp/Ceramy/image/img/A01X/G101/ENG/GRM033R61C333KE84-01.pdf
footprint FC_0.35
pins: A1 OUTA, A2 OUTB, A3 OUTC, B1 VHV, B2 AVDD, B3 GND REF, C1 IND, C2 GND PWR, C3 GPIO, D1 DATA, D2 CLK, D3 VIO

## STLQ020J18R
designator U?
STMICROELECTRONICS - STLQ020J18R - LDO-FESTSP.REGLER 1.8V 0.2A FLIP-CHIP-4; Ausgang: Fest; Eingangsspannung, min.: 2; Eingangsspannung, max.: 5.5; Feste Ausgangsspannung, nom.: 1.8; Ausgangsstrom: 200; Dropout-Spannung Vdo: 160; Anzahl der Pins: 4; Betriebstemperatur, min.: -40; Betriebstemperatur, max.: 125; Verpackung: Gurtabschnitt; Produktpalette: 1.8V 200; SVHC: No SVHC (15-Jan-2018; Supplier 1: Farnell; Supplier Part Number 1: 2851928; Manufacturer: STMICROELECTRONICS; Manufacturer Part Number: STLQ020J18R; RoHS: YES; Stock: 99; Pricing: 5=0.437, 50=0.385, 100=0.235, 250=0.208, 500=0.182, 1000=0.155, 5000=0.147, 10000=0.139 (EUR); Einstellbare Ausgangsspannung, min.: -; Einstellbare Ausgangsspannung, max.: -; Bauform - LDO-Regler: Flip-Chip; Qualifizierungsstandard der Automobilindustrie: -; ComponentLink1URL: http://www.farnell.com/datasheets/2600077.pdf; ComponentLink1Description: http://www.farnell.com/datasheets/2600077.pdf
footprint FC_4
pins: A1 Vin, A2 Vout, B1 EN, B2 GND

## STLQ020PUR
designator U?
LOW DROPOUT (LDO) LINEAR REGULAT; Manufacturer: STMicroelectronics; Output Configuration: Positive; Output Type: Adjustable; Voltage - Input (Max): 5.5V; Voltage - Output (Min/Fixed): 0.8V; Voltage - Output (Max): 4.5V; Current - Output: 200mA; PSRR: 60dB ~ 50dB (100Hz ~ 10kHz); Control Features: Enable; Protection Features: Over Current, Over Temperature; Supplier 1: Digi-Key; Supplier Part Number 1: 497-17711-2-ND; Manufacturer Part Number: STLQ020PUR; RoHS: Request Inventory Verification; Category: Integrated Circuits (ICs); Stock: 0; Pricing: 3000=0.16676, 6000=0.15601, 15000=0.14525, 30000=0.13772 (EUR); Packaging: Tape & Reel (TR); Part Status: Active; Voltage Dropout (Max): -; Operating Temperature: -40°C ~ 125°C; Mounting Type: Surface Mount; Package / Case: 6-VFDFN Exposed Pad; Supplier Device Package: 6-DFN (2x2); ComponentLink1URL: http://www.st.com/content/ccc/resource/technical/document/datasheet/group3/ed/dd/2e/c8/60/11/42/07/DM00380001/files/DM00380001.pdf/jcr:content/translations/en.DM00380001.pdf; ComponentLink1Description: http://www.st.com/content/ccc/resource/technical/document/datasheet/group3/ed/dd/2e/c8/60/11/42/07/DM00380001/files/DM00380001.pdf/jcr:content/translations/en.DM00380001.pdf
footprint DFN6 2x2mm
pins: 0 EP, 1 VO, 2 ADJ, 3 GND, 4 EN, 5 NC, 6 VI

## STM32L476JE
designator *
Ultra-low-power ARM® Cortex®-M4 32-bit MCU+FPU; Manufacturer: STMicroelectronics; Manufacturer Part Number: STM32L476JEY6TR; Speed: 80MHz; Connectivity: CAN, I²C, IrDA, LIN, MMC/SD, QSPI, SAI, SPI, SWPMI, UART/USART, USB OTG; Peripherals: Brown-out Detect/Reset, DMA, LCD, PWM, WDT; Program Memory Size: 512KB (512K x 8); Program Memory Type: FLASH; RAM Size: 128K x 8; Voltage - Supply (Vcc/Vdd): 1.71 V ~ 3.6 V; Data Converters: A/D 16x12b, D/A 2x12b; Oscillator Type: Internal; Supplier 1: Digi-Key; Supplier Part Number 1: 497-17667-1-ND; RoHS: RoHS Compliant; Category: Integrated Circuits (ICs); Stock: 4000; Pricing: 1=6.33, 10=5.718, 100=4.734, 500=4.12232, 1000=3.59041 (EUR); Packaging: Cut Tape (CT); Part Status: Active; Core Processor: ARM® Cortex®-M4; Core Size: 32-Bit; EEPROM Size: -; Operating Temperature: -40°C ~ 85°C (TA); Package / Case: 72-UFBGA, WLCSP; Supplier Device Package: 72-WLCSP; ComponentLink1URL: http://www.st.com/content/ccc/resource/technical/document/datasheet/c5/ed/2f/60/aa/79/42/0b/DM00108832.pdf/files/DM00108832.pdf/jcr:content/translations/en.DM00108832.pdf; ComponentLink1Description: http://www.st.com/content/ccc/resource/technical/document/datasheet/c5/ed/2f/60/aa/79/42/0b/DM00108832.pdf/files/DM00108832.pdf/jcr:content/translations/en.DM00108832.pdf
footprint WLCSP72
part A pins: A2 PA15 (io), A3 PD2 (io), A4 PG9 (io), A5 PG14 (io), A6 PB3 (io), A7 PB7 (io), B2 PA14 (io), B3 PC12 (io), B4 PG10 (io), B5 PG13 (io), B7 PB6 (io), B8 PC13 (io), C1 PA12 (io), C2 PA13 (io), C3 PC11 (io), C4 PG11 (io), C5 PG12 (io), C6 PB4 (io), C7 PB5 (io), C8 PC15-OSC32_OUT (io), C9 PC14-OSC32_IN (io), D1 PA11 (io), D2 PA10 (io), D3 PC10 (io), D7 BOOT0 (in), D8 PH1-OSC_OUT (io), D9 PH0-OSC_IN (io), E1 PC9 (io), E2 PA8 (io), E3 PA9 (io), E7 PB8 (io), E8 PB9 (io), E9 NRST (io), F1 PC7 (io), F2 PC8 (io), F3 PC6 (io), F7 PC2 (io), F8 PC1 (io), F9 PC0 (io), G1 PB15 (io), G2 PB14 (io), G3 PB11 (io), G4 PA1 (io), G5 PA4 (io), G6 PA2 (io), G7 PC3 (io), H1 PB12 (io), H2 PB13 (io), H3 PB10 (io), H4 PA7 (io), H5 PA6 (io), H6 PA5 (io), H7 PA3 (io), H8 PA0 (io), J3 PB2 (io), J4 PB1 (io), J5 PB0 (io), J6 PC5 (io), J7 PC4 (io)
part B pins: A1 VDDUSB (power), A8 VSS (power), A9 VDD (power), B1 VSS (power), B6 VDDIO2 (power), B9 VBAT (power), G8 VREF+ (power), G9 VSSA/VREF- (power), H9 VDDA (power), J1 VDD (power), J2 VSS (power), J8 VDD (power), J9 VSS (power)

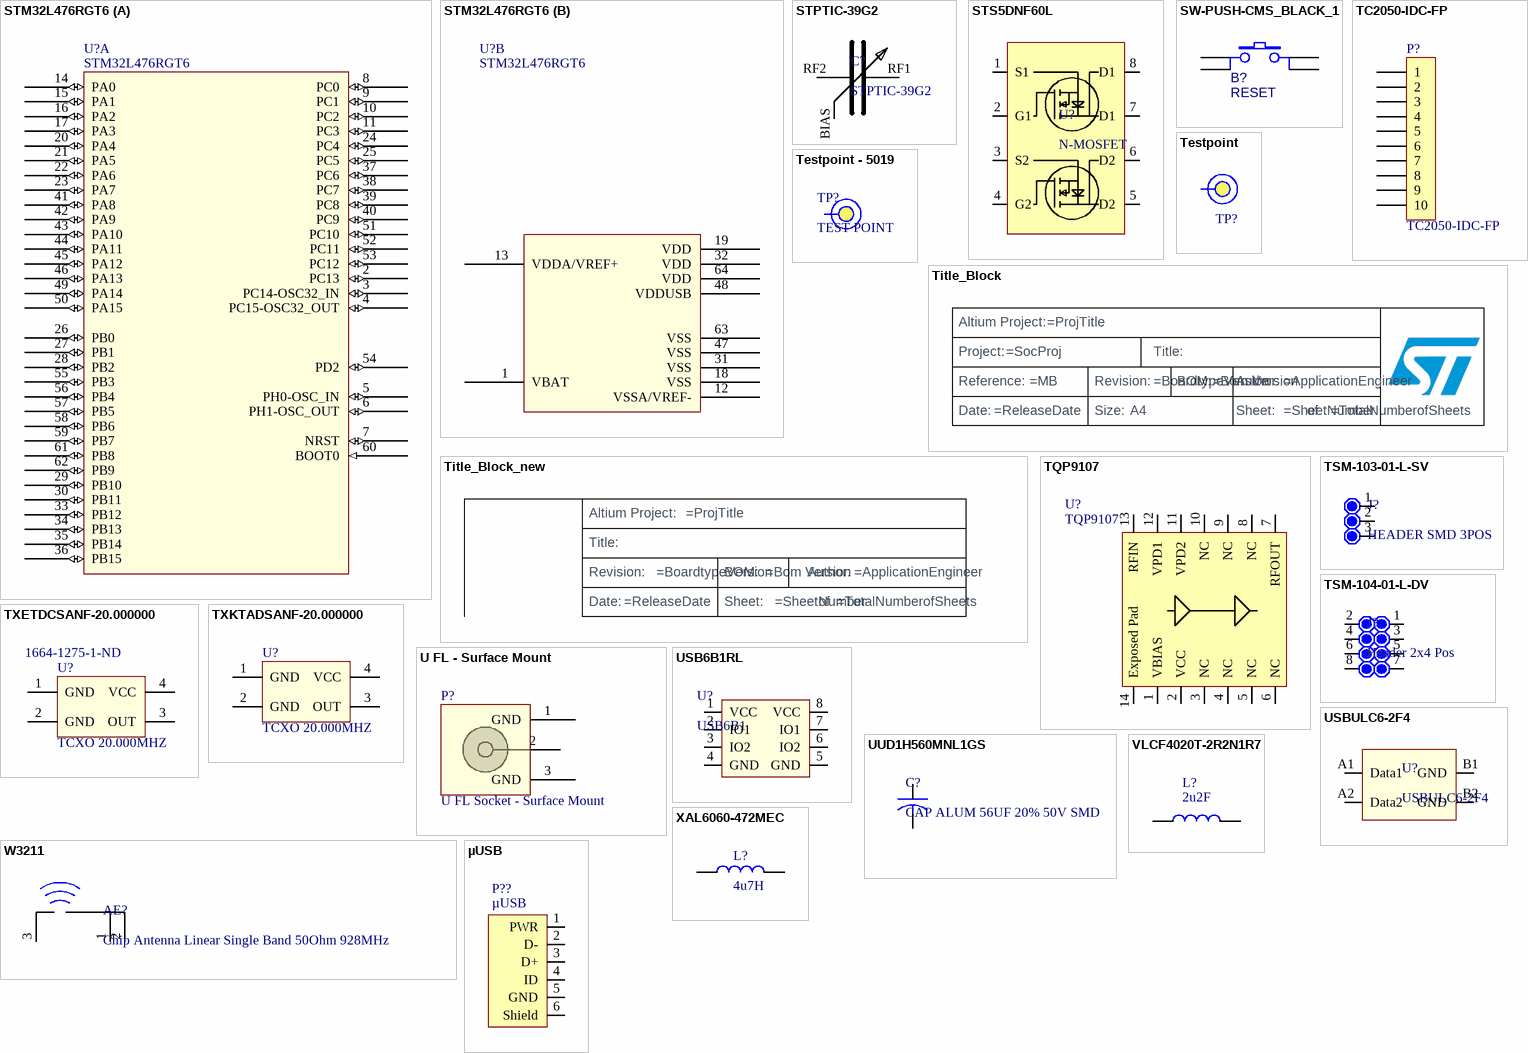
[diagram p6: symbols STM32L476RGT6 to µUSB]

## STM32L476RGT6
designator U?
IC MCU 32BIT 1MB FLASH 64LQFP; Manufacturer: STMicroelectronics; Core Processor: ARM® Cortex®-M4; Core Size: 32-Bit; Speed: 80MHz; Connectivity: CAN, I²C, IrDA, LIN, MMC/SD, QSPI, SAI, SPI, SWPMI, UART/USART, USB OTG; Peripherals: Brown-out Detect/Reset, DMA, LCD, PWM, WDT; Number of I/O: 51; Program Memory Size: 1MB (1M x 8); RAM Size: 128K x 8; Voltage - Supply (Vcc/Vdd): 1.71 V ~ 3.6 V; Data Converters: A/D 16x12b, D/A 2x12b; Oscillator Type: Internal; Exact Component Match: yes; Current Rating: 5A; Gender: Male; Shielding: Unshielded; Connector Type: Jack; Voltage Rating: 24V; Insulation Resistance: 100MR; Number of Conductors: 2; Supplier 1: Digi-Key; Supplier Part Number 1: 497-15877-ND; RoHS: RoHS Compliant; Category: Integrated Circuits (ICs); Stock 1: 992; Pricing 1: 1=8.5, 10=7.68, 100=6.3585, 500=5.53696, 1000=4.82251 (EUR); Packaging: Tray; Part Status: Active; Program Memory Type: FLASH; EEPROM Size: -; Operating Temperature: -40°C ~ 85°C (TA); Package / Case: 64-LQFP; Supplier Device Package: 64-LQFP (10x10); ComponentLink1URL: http://www.st.com/content/ccc/resource/technical/document/datasheet/c5/ed/2f/60/aa/79/42/0b/DM00108832.pdf/files/DM00108832.pdf/jcr:content/translations/en.DM00108832.pdf; ComponentLink1Description: http://www.st.com/content/ccc/resource/technical/document/datasheet/c5/ed/2f/60/aa/79/42/0b/DM00108832.pdf/files/DM00108832.pdf/jcr:content/translations/en.DM00108832.pdf; Manufacturer Part Number: STM32L476RGT6; Supplier 2: Digi-Key; Supplier Part Number 2: CP-036AHPJCT-ND; Stock: 13451; Pricing: 1 = 1.39000, 10 = 1.26100, 25 = 1.18400, 50 = 1.13260, 100 = 1.08110 (USD); Mount: Surface Mount; Case/Package: SMD/SMT; Color: Black; Contact Material: Brass,Copper; Contact Plating: Nickel,Silver; Housing Color: Black; Housing Material: Thermoplastic; Min Operating Temperature: -25°C; Max Operating Temperature: 85°C; Package Quantity: 1000; Termination: SMD/SMT; Contact Gender: Male; Orientation: Horizontal; Lead Free: Lead Free; Flammability Rating: UL94 V-0
footprint LQFP64-10x10mm
part A pins: 2 PC13 (io), 3 PC14-OSC32_IN (io), 4 PC15-OSC32_OUT (io), 5 PH0-OSC_IN (io), 6 PH1-OSC_OUT (io), 7 NRST (io), 8 PC0 (io), 9 PC1 (io), 10 PC2 (io), 11 PC3 (io), 14 PA0 (io), 15 PA1 (io), 16 PA2 (io), 17 PA3 (io), 20 PA4 (io), 21 PA5 (io), 22 PA6 (io), 23 PA7 (io), 24 PC4 (io), 25 PC5 (io), 26 PB0 (io), 27 PB1 (io), 28 PB2 (io), 29 PB10 (io), 30 PB11 (io), 33 PB12 (io), 34 PB13 (io), 35 PB14 (io), 36 PB15 (io), 37 PC6 (io), 38 PC7 (io), 39 PC8 (io), 40 PC9 (io), 41 PA8 (io), 42 PA9 (io), 43 PA10 (io), 44 PA11 (io), 45 PA12 (io), 46 PA13 (io), 49 PA14 (io), 50 PA15 (io), 51 PC10 (io), 52 PC11 (io), 53 PC12 (io), 54 PD2 (io), 55 PB3 (io), 56 PB4 (io), 57 PB5 (io), 58 PB6 (io), 59 PB7 (io), 60 BOOT0 (in), 61 PB8 (io), 62 PB9 (io)
part B pins: 1 VBAT (power), 12 VSSA/VREF- (power), 13 VDDA/VREF+ (power), 18 VSS (power), 19 VDD (power), 31 VSS (power), 32 VDD (power), 47 VSS (power), 48 VDDUSB (power), 63 VSS (power), 64 VDD (power)

## STPTIC-39G2
designator C?
Parascan™ tunable integrated capacitor; Manufacturer: STMicroelectronics; Manufacturer Part Number: STPTIC-39G2C5; Function: Analog Tunable Capacitor; Frequency: 700MHz ~ 2.7GHz; RF Type: GSM, LTE, W-CDMA; Supplier 1: Digi-Key; Supplier Part Number 1: 497-16325-1-ND; RoHS: RoHS Compliant; Category: RF/IF and RFID; Stock: 1085; Pricing: 1=1.01, 10=0.892, 100=0.7049, 500=0.54664, 1000=0.43156 (EUR); Packaging: Cut Tape (CT); Part Status: Active; Secondary Attributes: -; Package / Case: 4-UFBGA, WLCSP; Supplier Device Package: 4-WLCSP; ComponentLink1URL: http://www.st.com/content/ccc/resource/technical/document/datasheet/17/d3/98/7d/a2/07/4a/bc/DM00214174.pdf/files/DM00214174.pdf/jcr:content/translations/en.DM00214174.pdf; ComponentLink1Description: http://www.st.com/content/ccc/resource/technical/document/datasheet/17/d3/98/7d/a2/07/4a/bc/DM00214174.pdf/files/DM00214174.pdf/jcr:content/translations/en.DM00214174.pdf; Supplier 2: Digi-Key; Supplier Part Number 2: 1798-1196-ND; Mount: Surface Mount; Package Quantity: 20; ComponentLink2URL: https://datasheet.ciiva.com/46646/70323274-46646159.pdf; ComponentLink2Description: https://datasheet.ciiva.com/46646/70323274-46646159.pdf
footprint STPTIC-39G2 (Parascan™ tunable integrated capacitor)
pins: BIAS, RF1, RF2

## STS5DNF60L
designator U?, comment N-MOSFET
Dual N-Channel 60 V 0.045 Ohm Surface Mount STripFET II Power Mosfet - SOIC-8; Manufacturer: STMicroelectronics; Manufacturer Part Number: STS5DNF60L; Rise Time: 28ns; Rds On Max: 45mR; Input Capacitance: 1.03nF; Drain to Source Voltage (Vdss): 60V; Continuous Drain Current (ID): 5A; Max Power Dissipation: 2W; Turn-On Delay Time: 15ns; Turn-Off Delay Time: 45ns; Fall Time: 10ns; Number of Elements: 2; Gate to Source Voltage (Vgs): 15V; FET Type: 2 N-Channel; Supplier 1: Digi-Key; Supplier Part Number 1: 497-15672-1-ND; Stock: 1311; Pricing: 1 = 1.75000, 10 = 1.54900, 100 = 1.22410, 500 = 0.94934, 1000 = 0.74948 (USD); Mount: Surface Mount; Case/Package: SOIC; Number of Pins: 8; Min Operating Temperature: -55°C; Max Operating Temperature: 150°C; Packaging: Tape and Reel; Package Quantity: 2500; Power Dissipation: 2W; Radiation Hardening: No; Lead Free: Lead Free; ComponentLink1URL: http://www.st.com/web/en/resource/technical/document/datasheet/CD00187178.pdf; ComponentLink1Description: http://www.st.com/web/en/resource/technical/document/datasheet/CD00187178.pdf; ComponentLink2URL: http://datasheet.octopart.com/STS5DNF60L-STMicroelectronics-datasheet-10837334.pdf; ComponentLink2Description: http://datasheet.octopart.com/STS5DNF60L-STMicroelectronics-datasheet-10837334.pdf; ComponentLink3URL: http://datasheet.octopart.com/STS5DNF60L-STMicroelectronics-datasheet-62337211.pdf; ComponentLink3Description: http://datasheet.octopart.com/STS5DNF60L-STMicroelectronics-datasheet-62337211.pdf; ComponentLink4URL: http://datasheet.octopart.com/STS5DNF60L-STMicroelectronics-datasheet-16349841.pdf; ComponentLink4Description: http://datasheet.octopart.com/STS5DNF60L-STMicroelectronics-datasheet-16349841.pdf
footprint SO-8 (SOP, 8-Leads, Body 4,90x3,90mm, Pitch 1,27mm, IPC Medium Density)
pins: 1 S1, 2 G1, 3 S2, 4 G2, 5 D2, 6 D2, 7 D1, 8 D1

## SW-PUSH-CMS_BLACK_1
designator B?, comment RESET
Non-Open Push-Button 0.1A 24V; Manufacturer 1: C&K Components; Manufacturer Part Number 1: KMR211NG LFS; Circuit: SPST-NO; Switch Function: Off-Mom; Contact Rating @ Voltage: 0.05A @ 32VDC; Actuator Type: Standard; Actuator Height off PCB, from Pins: 1.90mm; Actuator Orientation: Top Actuated; Outline: 4.60mm x 2.80mm; Illumination: Non-Illuminated; Operating Force: 120gf; Switch Travel: 0.20mm; Mechanical Life: 200,000 Cycles; Exact Component Match: yes; Supplier 1: Digi-Key; Supplier Part Number 1: CKN10243DKR-ND; RoHS: RoHS Compliant; Category: Switches; Stock 1: 4624; Pricing 1: 1=0.46, 10=0.444, 25=0.4356, 50=0.4192, 100=0.3616, 250=0.32876, 500=0.31232, 1000=0.24656 (EUR); Packaging: Digi-Reel®; Part Status: Active; Mounting Type: Surface Mount; Termination Style: Gull Wing; Illumination Voltage (Nominal): -; Illumination Type, Color: -; Ingress Protection: -; Features: -; Actuator Material: -; Operating Temperature: -40°C ~ 85°C; ComponentLink1URL: http://www.ck-components.com/media/1479/kmr2.pdf; ComponentLink1Description: http://www.ck-components.com/media/1479/kmr2.pdf; Manufacturer: C&K Components; Manufacturer Part Number: KMR211NG LFS
footprint SW_SPST_KMR211G
pins: 1, 2, 3, 4

## TC2050-IDC-FP
designator P?  (no BOM)
Exact Component Match: yes; LatestRevisionDate: 17-Jul-2002; LatestRevisionNote: Re-released for DXP Platform.; Publisher: Altium Limited
footprint TC2050-IDC-FP (TC2050-IDC  10-Pin Plug-of-NailsTM)
pins: 1, 2, 3, 4, 5, 6, 7, 8, 9, 10

## Testpoint
designator TP?  (value not drawn)  (no BOM)
Manufacturer: Keystone Electronics; Manufacturer Part Number: 5019; Supplier 1: Farnell; Supplier Part Number 1: 2529475; RoHS: Yes; Stock: 7606; Pricing: 1 = 0.24200 (CHF); Mount: PCB,Surface Mount; Number of Pins: 1; Contact Plating: Silver; Material: Bronze; Contact Material: Bronze; Packaging: Tape and Reel; Package Quantity: 1; Termination: SMD/SMT; Height: 0.09inch; REACH SVHC: No SVHC; Lead Free: Lead Free; ComponentLink1URL: http://www.keyelco.com/userAssets/file/M60-2p61.pdf; ComponentLink1Description: http://www.keyelco.com/userAssets/file/M60-2p61.pdf; ComponentLink2URL: https://www.alliedelec.com/m/d/7cde97af424e5e26d7fd34350071af05.pdf; ComponentLink2Description: https://www.alliedelec.com/m/d/7cde97af424e5e26d7fd34350071af05.pdf
footprint TP (Testpoint)
pins: 1

## Testpoint - 5019
designator TP?, comment TEST POINT
Circuit Board Hardware - PCB TEST POINT; Manufacturer: Keystone Electronics; Manufacturer Part Number: 5019; Supplier 1: Farnell; Supplier Part Number 1: 2529475; RoHS: Yes; Stock: 7606; Pricing: 1 = 0.24200 (CHF); Mount: PCB,Surface Mount; Number of Pins: 1; Contact Plating: Silver; Material: Bronze; Contact Material: Bronze; Packaging: Tape and Reel; Package Quantity: 1; Termination: SMD/SMT; Height: 0.09inch; REACH SVHC: No SVHC; Lead Free: Lead Free; ComponentLink1URL: http://www.keyelco.com/userAssets/file/M60-2p61.pdf; ComponentLink1Description: http://www.keyelco.com/userAssets/file/M60-2p61.pdf; ComponentLink2URL: https://www.alliedelec.com/m/d/7cde97af424e5e26d7fd34350071af05.pdf; ComponentLink2Description: https://www.alliedelec.com/m/d/7cde97af424e5e26d7fd34350071af05.pdf
footprint Testpoint - 5019 (PC TEST POINT MINIATURE)
pins: 1